# EAGLE library part WE-LLCR (library Wurth_Elektronik_Passive_rev16a)
Characteristics Characteristics Transformer for high efficiency power supply Input voltage 360–400 VDC Switching frequency 70–120 kHz Output power 150 W–250 W Testing voltage 4 kVAC Litz wire for low eddy current losses Defined leakage inductance for use without additional resonant inductor Applications Power supplies for PC, netbook, LED lighting and other power supplies High efficient resonant converters <http://katalog.we-online.de/media/images/eisos/UtLLCR_pf2.jpg> Details see: http://katalog.we-online.de/en/pbs/WE-LLCR? Updated by Dan Xu 2014-07-07 2014 (C) Wurth Elektronik
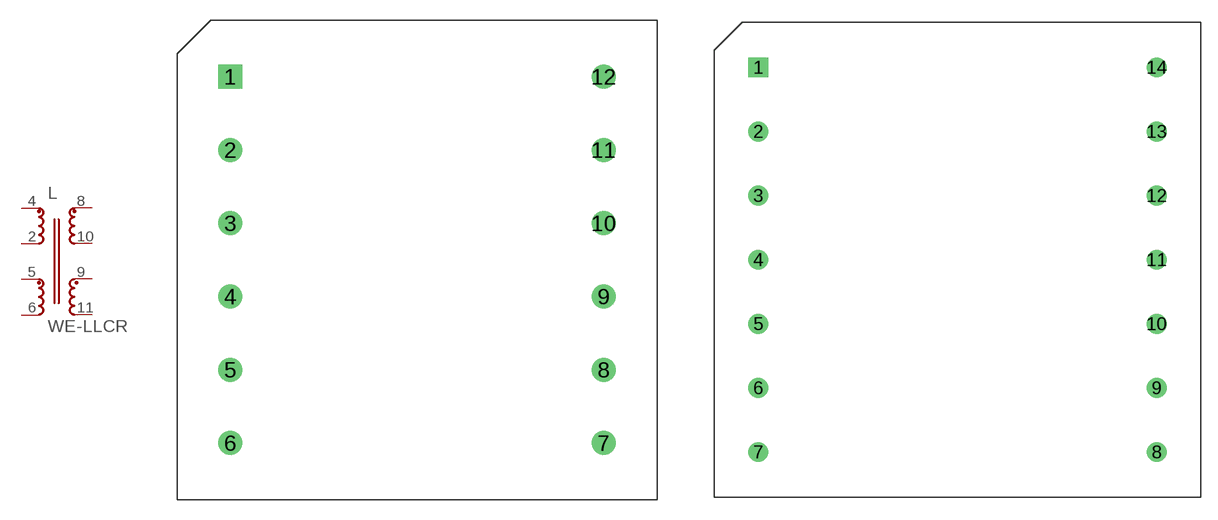
[diagram p13: symbol with the pads of WE-LLCR_ETD34; footprints WE-LLCR_ETD34, WE-LLCR_ETD39]

Designator prefix L

## WE-LLCR_ETD34  [WE-LLCR_ETD34]
2  8  pas
4  1  pas
5  7  pas
6  6  pas
8  2  pas
9  4  pas
10  3  pas
11  5  pas

## WE-LLCR_760895631  [WE-LLCR_ETD39]
2  8  pas
4  1  pas
5  7  pas
6  6  pas
8  2  pas
9  2  pas
10  4  pas
11  3  pas
12  3  pas
13  5  pas
14  5  pas

## WE-LLCR_ETD44  [WE-LLCR_ETD44]
1  2  pas
2  2  pas
3  4  pas
4  4  pas
5  3  pas
6  3  pas
7  5  pas
8  5  pas
10  8  pas
12  1  pas
14  6  pas
15  7  pas

## WE-LLCR_760895641  [WE-LLCR_ETD39]
2  8  pas
4  1  pas
5  7  pas
6  6  pas
8  2  pas
10  4  pas
12  3  pas
14  5  pas

## WE-LLCR_760895651  [WE-LLCR_ETD39]
Pads as for WE-LLCR_ETD39

## Footprint WE-LLCR_ETD34 (pad centres in mm)
size: ETD34 Height : 26mm max
drill 1.2 square: 1 -14,13.75
drill 1.2: 2 -14,8.25; 3 -14,2.75; 4 -14,-2.75; 5 -14,-8.25; 6 -14,-13.75; 7 14,-13.75; 8 14,-8.25; 9 14,-2.75; 10 14,2.75; 11 14,8.25; 12 14,13.75

## Footprint WE-LLCR_ETD39 (pad centres in mm)
size: ETD39 Height : 30mm max
drill 1.2 square: 1 -18,17.4
drill 1.2: 2 -18,11.6; 3 -18,5.8; 4 -18,0; 5 -18,-5.8; 6 -18,-11.6; 7 -18,-17.4; 8 18,-17.4; 9 18,-11.6; 10 18,-5.8; 11 18,0; 12 18,5.8; 13 18,11.6; 14 18,17.4

## Footprint WE-LLCR_ETD44 (pad centres in mm)
size: ETD39 Height : 27.5mm max
drill 1.2 square: 1 -17.5,17.5
drill 1.2: 2 -17.5,12.5; 3 -17.5,7.5; 4 -17.5,2.5; 5 -17.5,-2.5; 6 -17.5,-7.5; 7 -17.5,-12.5; 8 -17.5,-17.5; 9 17.5,-17.5; 10 17.5,-12.5; 11 17.5,-7.5; 12 17.5,-2.5; 13 17.5,2.5; 14 17.5,7.5; 15 17.5,12.5; 16 17.5,17.5